# EAGLE library part AT-SAM-D21-G (library dr-library)
Microchip/Atmel SAMD21 Series, 48-pin ARM Cortex M0+
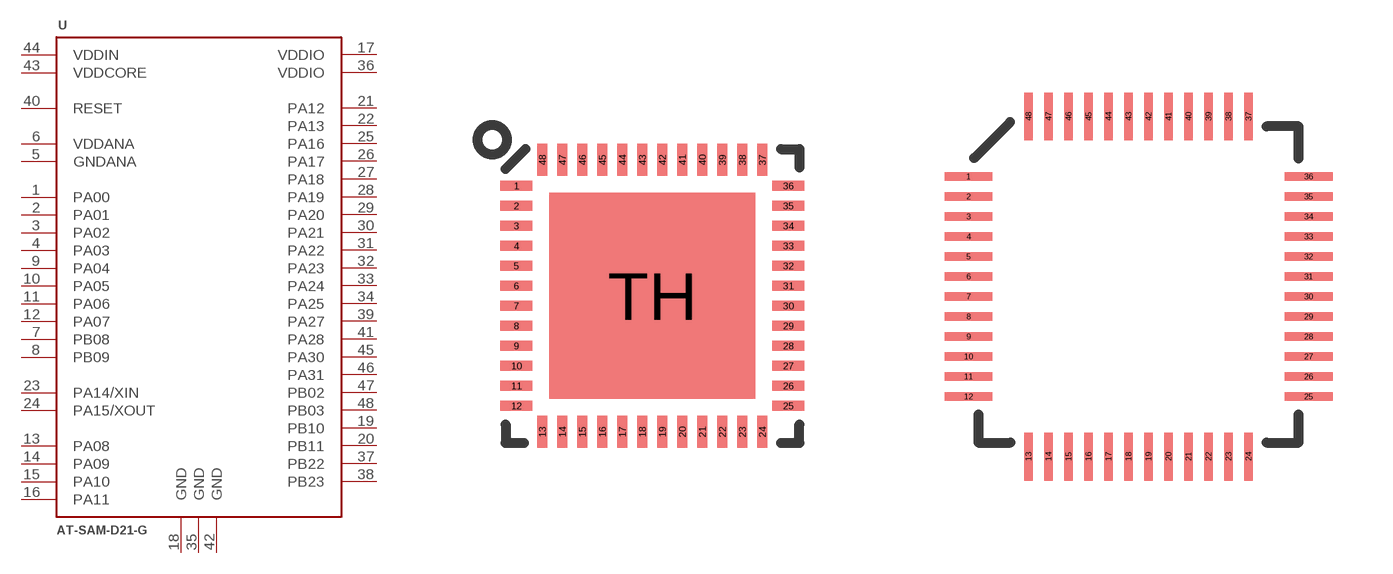
[diagram p3: symbol with the pads of QFN-48; footprints QFN-48, TQFP-48]

Designator prefix U

## AT-SAM-D21-GQFN  [QFN-48]
1  PA00
2  PA01
3  PA02
4  PA03
5  GNDANA  pwr
6  VDDANA  pwr
7  PB08
8  PB09
9  PA04
10  PA05
11  PA06
12  PA07
13  PA08
14  PA09
15  PA10
16  PA11
17  VDDIO  pwr
18  GND  pwr
19  PB10
20  PB11
21  PA12
22  PA13
23  PA14/XIN
24  PA15/XOUT
25  PA16
26  PA17
27  PA18
28  PA19
29  PA20
30  PA21
31  PA22
32  PA23
33  PA24
34  PA25
35  GND  pwr
36  VDDIO  pwr
37  PB22
38  PB23
39  PA27
40  RESET
41  PA28
42  GND  pwr
43  VDDCORE  out
44  VDDIN  pwr
45  PA30
46  PA31
47  PB02
48  PB03

## AT-SAM-D21-GTQFP  [TQFP-48]
Pads as for QFN-48

## Footprint QFN-48 (pad centres in mm)
smd 0.8 x 0.25: 1 -3.4,2.75; 2 -3.4,2.25; 3 -3.4,1.75; 4 -3.4,1.25; 5 -3.4,0.75; 6 -3.4,0.25; 7 -3.4,-0.25; 8 -3.4,-0.75; 9 -3.4,-1.25; 10 -3.4,-1.75; 11 -3.4,-2.25; 12 -3.4,-2.75; 25 3.4,-2.75; 26 3.4,-2.25; 27 3.4,-1.75; 28 3.4,-1.25; 29 3.4,-0.75; 30 3.4,-0.25; 31 3.4,0.25; 32 3.4,0.75; 33 3.4,1.25; 34 3.4,1.75; 35 3.4,2.25; 36 3.4,2.75
smd 0.25 x 0.8: 13 -2.75,-3.4; 14 -2.25,-3.4; 15 -1.75,-3.4; 16 -1.25,-3.4; 17 -0.75,-3.4; 18 -0.25,-3.4; 19 0.25,-3.4; 20 0.75,-3.4; 21 1.25,-3.4; 22 1.75,-3.4; 23 2.25,-3.4; 24 2.75,-3.4; 37 2.75,3.4; 38 2.25,3.4; 39 1.75,3.4; 40 1.25,3.4; 41 0.75,3.4; 42 0.25,3.4; 43 -0.25,3.4; 44 -0.75,3.4; 45 -1.25,3.4; 46 -1.75,3.4; 47 -2.25,3.4; 48 -2.75,3.4
smd 5.15 x 5.15: TH 0,0

## Footprint TQFP-48 (pad centres in mm)
smd 1.2 x 0.22: 1 -4.25,2.75; 2 -4.25,2.25; 3 -4.25,1.75; 4 -4.25,1.25; 5 -4.25,0.75; 6 -4.25,0.25; 7 -4.25,-0.25; 8 -4.25,-0.75; 9 -4.25,-1.25; 10 -4.25,-1.75; 11 -4.25,-2.25; 12 -4.25,-2.75; 25 4.25,-2.75; 26 4.25,-2.25; 27 4.25,-1.75; 28 4.25,-1.25; 29 4.25,-0.75; 30 4.25,-0.25; 31 4.25,0.25; 32 4.25,0.75; 33 4.25,1.25; 34 4.25,1.75; 35 4.25,2.25; 36 4.25,2.75
smd 0.22 x 1.2: 13 -2.75,-4.25; 14 -2.25,-4.25; 15 -1.75,-4.25; 16 -1.25,-4.25; 17 -0.75,-4.25; 18 -0.25,-4.25; 19 0.25,-4.25; 20 0.75,-4.25; 21 1.25,-4.25; 22 1.75,-4.25; 23 2.25,-4.25; 24 2.75,-4.25; 37 2.75,4.25; 38 2.25,4.25; 39 1.75,4.25; 40 1.25,4.25; 41 0.75,4.25; 42 0.25,4.25; 43 -0.25,4.25; 44 -0.75,4.25; 45 -1.25,4.25; 46 -1.75,4.25; 47 -2.25,4.25; 48 -2.75,4.25